# EAGLE library part SHT20 (library angrypig7-IC-Sensors)
Sensirion SHT20, Temperature & Humidity Sensor Operating Range: (0~100% RH), (-40~125°C) Accuracy: +/-3%RH, +/-0.3°C
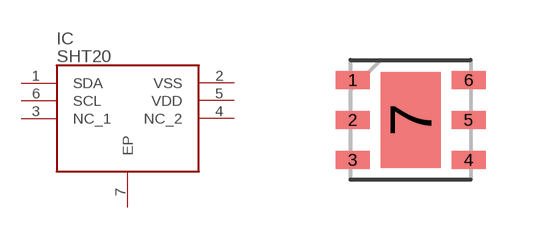
[diagram p0: symbol with the pads of DFN-6; footprint DFN-6]

Designator prefix IC

## SHT20  [DFN-6]
1  SDA
2  VSS
3  NC_1
4  NC_2
5  VDD
6  SCL
7  EP

## Footprint DFN-6 (pad centres in mm)
smd 0.85 x 0.45: 1 -1.45,1; 2 -1.45,0; 3 -1.45,-1; 4 1.45,-1; 5 1.45,0; 6 1.45,1
smd 1.5 x 2.4: 7 0,0